# EAGLE library part SW_DIP-5 (library kmod-mechanical)
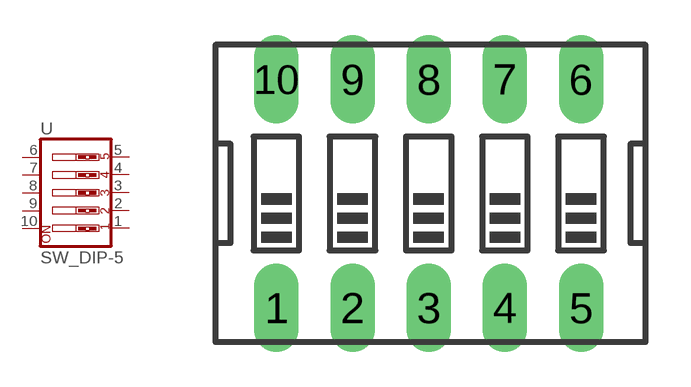
[diagram p0: symbol with the pads of DIPSWITCH-05; footprint DIPSWITCH-05]

Designator prefix -

## SW_DIP-5  [DIPSWITCH-05]
1  1  pas
2  2  pas
3  3  pas
4  4  pas
5  5  pas
6  12  pas
7  13  pas
8  14  pas
9  15  pas
10  16  pas

## Footprint DIPSWITCH-05 (pad centres in mm)
drill 0.97 long: 1 -5.39,-3.81; 2 -2.85,-3.81; 3 -0.31,-3.81; 4 2.23,-3.81; 5 4.77,-3.81; 6 4.77,3.81; 7 2.23,3.81; 8 -0.31,3.81; 9 -2.85,3.81; 10 -5.39,3.81